# Altium footprint library WSON.PcbLib: 1 footprints
Each footprint in its own frame and in the unit in brackets; x right, y up, seen from the top. Pads: shape width x height; smd on the part's side, far side on the other; paste and mask are expansions set on the pad; w line width, h text height; cw(c..) or ccw(c..) is an arc to the next point about the centre after c.
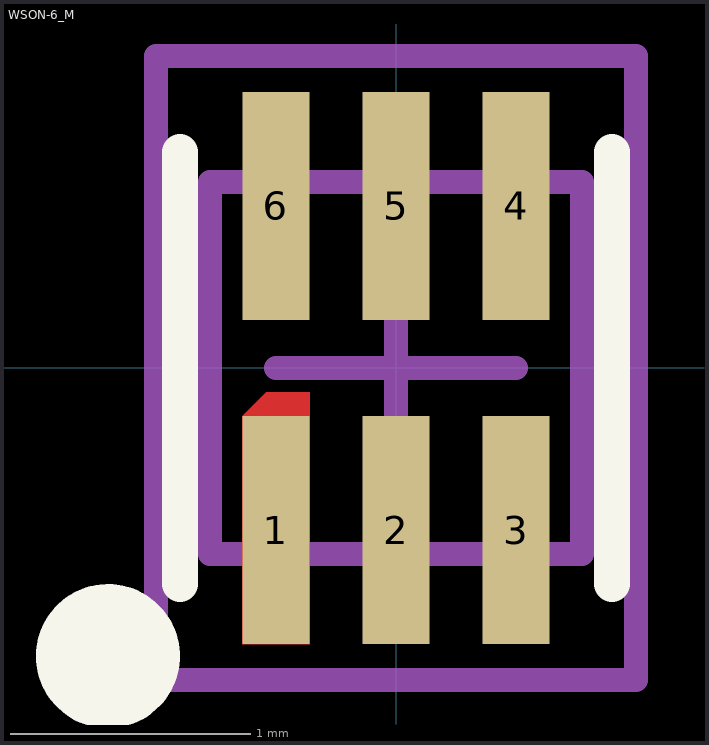
[diagram p0: the footprint, top view; thin cyan lines are the x and y axes]

## WSON-6_M [mm] "WSON, 6-Leads, Body 1.55x1.55mm, Pitch 0.5mm, IPC Low Density"
height 0.8
pads (6):
  rect 0.28x0.95 smd paste-0.025 mask+0.05: 1(-0.5,-0.675) 2(0,-0.675) 3(0.5,-0.675) 4(0.5,0.675) 5(0,0.675) 6(-0.5,0.675)
Top Layer:
  region: -0.64,-0.2 -0.54,-0.1 -0.36,-0.1 -0.36,-1.15 -0.64,-1.15
Top Overlay:
  circle w0.3: c-1.2,-1.2 r0.15
  lines w0.15: -0.9,-0.9 -0.9,0.9 ; 0.9,-0.9 0.9,0.9
Mechanical 13:
  lines w0.1: -0.775,-0.775 0.775,-0.775 0.775,0.775 -0.775,0.775 -0.775,-0.775
Mechanical 15:
  lines w0.1: -0.5,0 0.5,0 ; 0,-0.5 0,0.5 ; -1,-1.3 -1,1.3 1,1.3 1,-1.3 -1,-1.3
3D body: height 0.8, standoff 0.05, extent -0.775,-0.775 0.775,0.775